# Altium schematic symbol library Power_Distribution_Board_SchLib.SchLib: 23 symbols
Pins are listed as number, name and electrical type; pins without a type are passive.

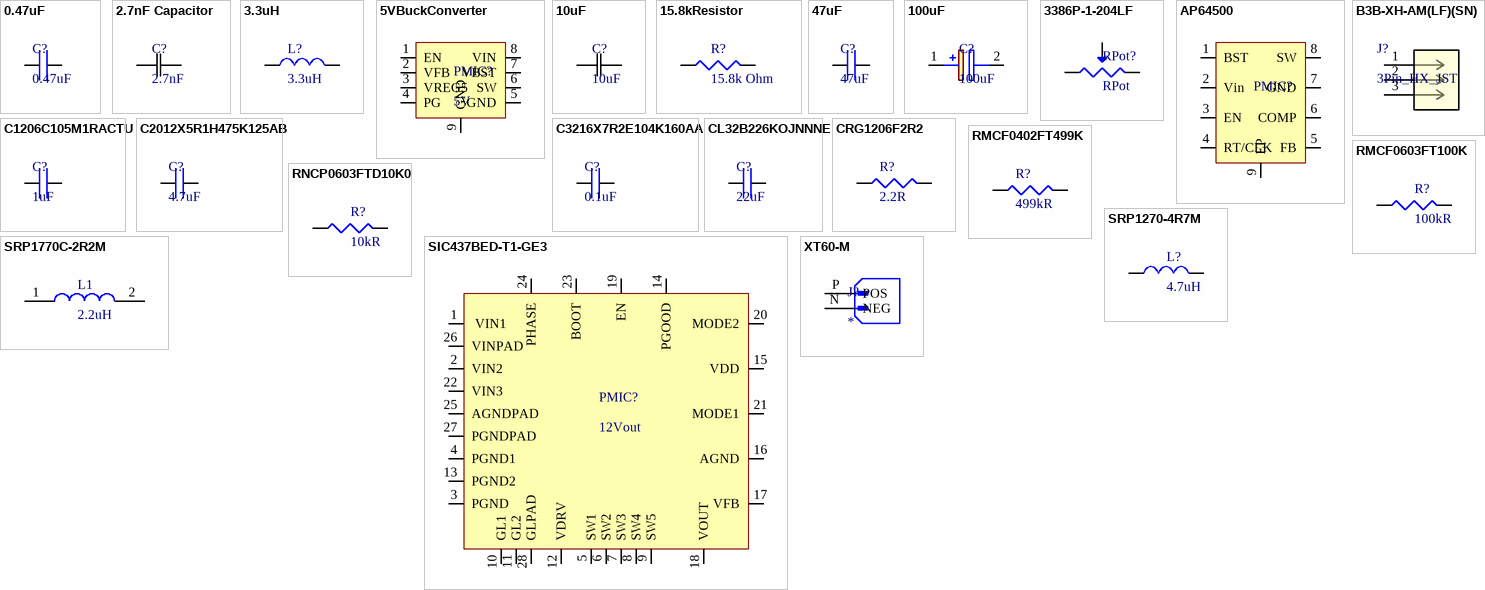
[diagram p0: symbols 0.47uF to XT60-M]

## 0.47uF
designator C?
CAP CER 0.47UF 16V X7R 0603; Manufacturer: Samsung; Manufacturer Part Number: CL10B474KO8NNNC; Material: Ceramic; Capacitance: 470nF; Tolerance: 10%; Supplier 1: Arrow Electronics; Supplier Part Number 1: CL10B474KO8NNNC; RoHS: Yes; Category: Ceramic Capacitors; Stock 1: 25396; Pricing 1: 1=0.08260, 10=0.02850, 25=0.02820, 100=0.01980, 250=0.01880, 500=0.01450, 1000=0.01110, 3000=0.01100, 6000=0.00870, 15000=0.00860 (USD); Mount: Surface Mount; Case/Package: 0603; Case Code (Metric): 1608; Case Code (Imperial): 0603; Contact Plating: Tin; Min Operating Temperature: -55°C; Max Operating Temperature: 125°C; Packaging: Tape and Reel; Voltage Rating: 16V; Package Quantity: 1; Dielectric: X7R; Voltage: 16V; Voltage Rating (DC): 16V; Series: CL; Construction: Flat; Length: 1.6mm; Width: 0.031inch; Height: 0.8mm; Thickness: 0.035inch; Depth: 0.8mm; Radiation Hardening: No; Lead Free: Lead Free; RoHS Compliant: Yes; ComponentLink1URL: https://datasheet.ciiva.com/15195/getdatasheetpartid-354055-15195767.pdf?src-supplier=Verical; ComponentLink1Description: https://datasheet.ciiva.com/15195/getdatasheetpartid-354055-15195767.pdf?src-supplier=Verical; ComponentLink2URL: https://datasheet.ciiva.com/29198/456266-da-01-en-vs-kondensator-0603-29198948.pdf?src-supplier=Conrad; ComponentLink2Description: https://datasheet.ciiva.com/29198/456266-da-01-en-vs-kondensator-0603-29198948.pdf?src-supplier=Conrad; ComponentLink3URL: https://datasheet.ciiva.com/26310/mlcc-catalogdownload2013-eng-26310271.pdf?src-supplier=Distrelec; ComponentLink3Description: https://datasheet.ciiva.com/26310/mlcc-catalogdownload2013-eng-26310271.pdf?src-supplier=Distrelec; ComponentLink4URL: https://datasheet.ciiva.com/16311/clseries-16311528.pdf?src-supplier=Future+Electronics; ComponentLink4Description: https://datasheet.ciiva.com/16311/clseries-16311528.pdf?src-supplier=Future+Electronics
footprint 0_47uF_CAP_CL10_SAM
pins: 1, 2

## 2.7nF Capacitor
designator C?, comment 2.7nF
0402 2.7 nF 50 V ±10 % Tolerance X7R Surface Mount Multilayer Ceramic Capacitor; Manufacturer: Walsin Technologies; Manufacturer Part Number: 0402B272K500CT; Tolerance: 10%; Voltage Rating: 50V; Supplier 1: Arrow Electronics; Supplier Part Number 1: 0402B272K500CT; RoHS: Yes; Category: Ceramic Capacitors; Stock 1: 20000; Pricing 1: 10000=0.00560, 20000=0.00550, 50000=0.00540, 100000=0.00450 (USD); Case/Package: 0402; Case Code (Metric): 1005; Case Code (Imperial): 0402; Min Operating Temperature: -55°C; Max Operating Temperature: 125°C; Packaging: Tape and Reel; Dielectric: X7R; Capacitance: 2.7nF; Voltage Rating (DC): 50V; Length: 1mm; Depth: 0.5mm; REACH SVHC: Unknown; Lead Free: Lead Free; RoHS Compliant: Yes; ComponentLink1URL: http://www.farnell.com/datasheets/2340522.pdf?src-supplier=Farnell; ComponentLink1Description: http://www.farnell.com/datasheets/2340522.pdf?src-supplier=Farnell; ComponentLink2URL: http://www.passivecomponent.com/wp-content/uploads/2018/10/MLCC.pdf?src-supplier=Digi-Key; ComponentLink2Description: http://www.passivecomponent.com/wp-content/uploads/2018/10/MLCC.pdf?src-supplier=Digi-Key; ComponentLink3URL: http://www.farnell.com/datasheets/2340522.pdf?src-supplier=Element14; ComponentLink3Description: http://www.farnell.com/datasheets/2340522.pdf?src-supplier=Element14; ComponentLink4URL: http://www.farnell.com/datasheets/2340522.pdf?src-supplier=Newark; ComponentLink4Description: http://www.farnell.com/datasheets/2340522.pdf?src-supplier=Newark
footprint 2.7nF_CAP_0402_N_WAL
pins: 1, 2

## 3.3uH
designator L?
Inductor High Current Shielded Wirewound 3.3uH 20% 100KHz 15A 9.2mOhm DCR 5050 T/R; Manufacturer: Vishay Dale; Manufacturer Part Number: IHLP5050EZER3R3M01; Core Material: Ferrite,Metal,Composite; Saturation Current: 32A; Self Resonant Frequency: 5MHz; DC Resistance (DCR): 9.2mR; Supplier 1: Arrow Electronics; Supplier Part Number 1: IHLP5050EZER3R3M01; RoHS: Yes; Category: Fixed Inductors; Stock 1: 2750; Pricing 1: 250=1.14650, 500=1.05640 (USD); Mount: Surface Mount; Case/Package: 5050; Number of Pins: 5050; Min Operating Temperature: -55°C; Max Operating Temperature: 125°C; Inductance: 3.3uH; Tolerance: 20%; Package Quantity: 250; Current Rating: 15A; Shielding: Shielded; Packaging: Tape and Reel; Inductance Tolerance: 20%; Max DC Current: 15A; Termination: SMD/SMT; Test Frequency: 100kHz; RMS Current (Irms): 15A; Series: IHLP-5050EZ-01; Rated Current-Max: 15A; Length: 13.2mm; Width: 12.9mm; Height: 5mm; Height - Seated (Max): 0.197inch; Depth: 12.9mm; Radiation Hardening: No; REACH SVHC: Unknown; Military Standard: Not; Lead Free: Lead Free; RoHS Compliant: Yes; ComponentLink1URL: https://datasheet.ciiva.com/5706/425636-5706896.pdf?src-supplier=Farnell; ComponentLink1Description: https://datasheet.ciiva.com/5706/425636-5706896.pdf?src-supplier=Farnell; ComponentLink2URL: https://datasheet.ciiva.com/3082/ih50ez01-3082034.pdf?src-supplier=Avnet; ComponentLink2Description: https://datasheet.ciiva.com/3082/ih50ez01-3082034.pdf?src-supplier=Avnet; ComponentLink3URL: https://datasheet.ciiva.com/17113/70201670-17113196.pdf?src-supplier=Allied+Electronics; ComponentLink3Description: https://datasheet.ciiva.com/17113/70201670-17113196.pdf?src-supplier=Allied+Electronics; ComponentLink4URL: https://datasheet.ciiva.com/8017/425636-8017387.pdf?src-supplier=Element14; ComponentLink4Description: https://datasheet.ciiva.com/8017/425636-8017387.pdf?src-supplier=Element14
footprint 3uH3_IND_IHLP-5050EZ_VIS
pins: 1, 2

## 5VBuckConverter
designator PMIC?, comment 5V
IC REG BCK ADJ 5A SYNC 8SOPWRPAD; Manufacturer: Texas Instruments; Manufacturer Part Number: TPS56528DDAR; Number of Outputs: 1; Output Voltage: 7V; Min Input Voltage: 4.5V; Max Input Voltage: 18V; Switching Frequency: 650kHz; Min Output Voltage: 600mV; Synchronous Rectifier: Yes; Quiescent Current: 250uA; Output Type: Adjustable; Output Configuration: Positive; Supplier 1: Digi-Key; Supplier Part Number 1: 296-35857-1-ND; RoHS: Yes; Category: Voltage Regulators - Switching; Stock 1: 1500; Pricing 1: 1=1.46000, 10=1.30700, 25=1.24080, 100=1.01910, 250=0.95264, 500=0.84186, 1000=0.66880 (USD); Mount: Surface Mount; Case/Package: HSOP; Number of Pins: 8; Min Operating Temperature: -40°C; Max Operating Temperature: 125°C; Packaging: Tape and Reel; Max Output Current: 5A; Output Current: 5A; Package Quantity: 2500; Max Output Voltage: 7V; Operating Supply Voltage: 18V; Series: D-CAP2™, Eco-Mode™; Radiation Hardening: No; Lead Free: Lead Free; RoHS Compliant: Yes; ComponentLink1URL: https://datasheet.ciiva.com/30031/tps56528-30031601.pdf?src-supplier=Avnet; ComponentLink1Description: https://datasheet.ciiva.com/30031/tps56528-30031601.pdf?src-supplier=Avnet; ComponentLink2URL: https://datasheet.ciiva.com/14921/tps56528-14921052.pdf?src-supplier=Digi-Key; ComponentLink2Description: https://datasheet.ciiva.com/14921/tps56528-14921052.pdf?src-supplier=Digi-Key; ComponentLink3URL: https://datasheet.ciiva.com/14921/tps56528-14921051.pdf?src-supplier=Digi-Key; ComponentLink3Description: https://datasheet.ciiva.com/14921/tps56528-14921051.pdf?src-supplier=Digi-Key; ComponentLink4URL: https://datasheet.ciiva.com/14921/tps56528-14921053.pdf?src-supplier=Digi-Key; ComponentLink4Description: https://datasheet.ciiva.com/14921/tps56528-14921053.pdf?src-supplier=Digi-Key
pins: 1 EN, 2 VFB, 3 VREG5, 4 PG, 5 GND, 6 SW, 7 VBST, 8 VIN, 9 GND

## 10uF
designator C?
10 uF Capacitor; Manufacturer: Samsung; Manufacturer Part Number: CL21A106KOQNNNE; Tolerance: 10%; Voltage Rating: 16V; Dielectric: X7R; Supplier 1: Arrow Electronics; Supplier Part Number 1: CL21A106KOQNNNE; RoHS: Yes; Category: Ceramic Capacitors; Stock 1: 1696000; Pricing 1: 2000=0.02030, 4000=0.01630, 10000=0.01580, 14000=0.01420, 50000=0.00990 (USD); Mount: Surface Mount; Case/Package: 0805; Case Code (Metric): 2012; Case Code (Imperial): 0805; Min Operating Temperature: -55°C; Max Operating Temperature: 85°C; Package Quantity: 1; Packaging: Tape and Reel; Capacitance: 10uF; Voltage Rating (DC): 16V; Voltage: 16V; Series: CL; Construction: Flat; Length: 2mm; Width: 0.049inch; Height: 1.25mm; Thickness: 0.055inch; Depth: 1.25mm; Radiation Hardening: No; Lead Free: Lead Free; RoHS Compliant: Yes; ComponentLink1URL: https://datasheet.ciiva.com/25798/cl21a106koqnnne-25798133.pdf?src-supplier=Digi-Key; ComponentLink1Description: https://datasheet.ciiva.com/25798/cl21a106koqnnne-25798133.pdf?src-supplier=Digi-Key
footprint 10uF_CAP_CL21_SAM
pins: 1, 2

## 15.8kResistor
designator R?, comment 15.8k Ohm
Res Thick Film 0201 15.8K Ohm 1% 0.05W ±200ppm/°C Molded SMD T/R; Manufacturer: Panasonic; Manufacturer Part Number: ERJ-1GNF1582C; Resistance: 15.8kR; Power Rating: 50mW; Voltage Rating: 25V; Supplier 1: Mouser; Supplier Part Number 1: 667-ERJ-1GNF1582C; RoHS: Yes; Category: Chip SMD Resistors; Stock 1: 10000; Pricing 1: 1=0.12000, 10=0.06200, 50=0.06200, 100=0.02600, 1000=0.01200, 10000=0.00900 (USD); Mount: Surface Mount; Case/Package: 0201; Case Code (Imperial): 0201; Case Code (Metric): 0603; Contact Plating: Tin,Matte; Min Operating Temperature: -55°C; Max Operating Temperature: 125°C; Package Quantity: 15000; Packaging: Tape and Reel; Tolerance: 1%; Resistor Type: Thick Film; Number of Terminations: 2; Temperature Coefficient: 200ppm/°C; Max Power Dissipation: 50mW; Termination: SMD/SMT; Features: Automotive AEC-Q200; Length: 0.024inch; Width: 0.3mm; Height: 0.01inch; Radiation Hardening: No; ComponentLink1URL: http://www.mouser.com/ds/2/315/AOA0000CE2-37512.pdf?src-supplier=Mouser; ComponentLink1Description: http://www.mouser.com/ds/2/315/AOA0000CE2-37512.pdf?src-supplier=Mouser; ComponentLink2URL: http://www.onlinecomponents.com/datasheet/erj-1gnf1582c.aspx?p=44466414&src-supplier=Onlinecomponents.com; ComponentLink2Description: http://www.onlinecomponents.com/datasheet/erj-1gnf1582c.aspx?p=44466414&src-supplier=Onlinecomponents.com; ComponentLink3URL: https://industrial.panasonic.com/cdbs/www-data/pdf/RDA0000/AOA0000C304.pdf?src-supplier=Digi-Key; ComponentLink3Description: https://industrial.panasonic.com/cdbs/www-data/pdf/RDA0000/AOA0000C304.pdf?src-supplier=Digi-Key; ComponentLink4URL: https://industrial.panasonic.com/cdbs/www-data/pdf/RDM0000/DMM0000COL11.pdf?src-supplier=Digi-Key; ComponentLink4Description: https://industrial.panasonic.com/cdbs/www-data/pdf/RDM0000/DMM0000COL11.pdf?src-supplier=Digi-Key; ComponentLink5URL: http://industrial.panasonic.com/www-cgi/jvcr13pz.cgi?E+PZ+3+AOA0002+ERJ1GNF1582C+7+WW?src-supplier=Digi-Key; ComponentLink5Description: http://industrial.panasonic.com/www-cgi/jvcr13pz.cgi?E+PZ+3+AOA0002+ERJ1GNF1582C+7+WW?src-supplier=Digi-Key
footprint 15.8k_Ohm_RES_ERJ1GNF1582C
pins: 1, 2

## 47uF
designator C?
Cap Ceramic 47uF 16V X6S 10% Pad SMD 1210 105C T/R; Manufacturer: Murata; Manufacturer Part Number: GRM32EC81C476KE15K; Supplier 1: Arrow Electronics; Supplier Part Number 1: GRM32EC81C476KE15K; RoHS: Yes; Category: Ceramic Capacitors; Stock 1: 2851; Pricing 1: 1=0.54210, 10=0.31100, 25=0.30790, 100=0.25990, 250=0.25720, 500=0.19370, 1000=0.16060 (USD); Case/Package: 1210; Voltage Rating (DC): 16V; Dielectric: X6S; Tolerance: 10%; Capacitance: 47uF; Length: 3.2mm; Width: 2.5mm; Thickness: 2.5mm; RoHS Compliant: Yes; ComponentLink1URL: http://search.murata.co.jp/Ceramy/image/img/A01X/G101/ENG/GRM32EC81C476KE15-01.pdf?src-supplier=Digi-Key; ComponentLink1Description: http://search.murata.co.jp/Ceramy/image/img/A01X/G101/ENG/GRM32EC81C476KE15-01.pdf?src-supplier=Digi-Key; ComponentLink2URL: https://search.murata.co.jp/Ceramy/image/img/A01X/G101/ENG/GRM32EC81C476KE15-01.pdf?src-supplier=Digi-Key; ComponentLink2Description: https://search.murata.co.jp/Ceramy/image/img/A01X/G101/ENG/GRM32EC81C476KE15-01.pdf?src-supplier=Digi-Key
footprint 47uF_CeramicCAPC3225X270N
pins: 1, 2

## 100uF
designator C?
20TQC100MYF Cap Tant Solid 100uF 20V D3L CASE 20% (7.3 X 4.3 X 2.8mm) SMD 7343 0.055 Ohm 105 C Embossed T/R; Manufacturer: Panasonic; ESR (Equivalent Series Resistance): 55mR; Ripple Current: 1.7A; Leakage Current: 200uA; Polarity: Polar; Life (Hours): 2000Hour; Dissipation Factor: 10%; Supplier 1: RSComponents; Supplier Part Number 1: 7955749; Manufacturer Part Number: 20TQC100MYF; RoHS: Yes; Category: Polymer Capacitors; Stock 1: 1; Pricing 1: 2=4.40300, 26=3.55400, 126=2.76100, 626=2.04200, 1250=1.91900 (USD); Mount: Surface Mount; Case/Package: 2917; Case Code (Metric): 7343; Case Code (Imperial): 2917; Min Operating Temperature: -55°C; Max Operating Temperature: 105°C; Tolerance: 20%; Packaging: Tape and Reel; Package Quantity: 2500; Capacitance: 100uF; Voltage Rating: 20V; Voltage Rating (DC): 20V; Termination: SMD/SMT; Voltage: 20V; Features: General Purpose; Length: 7.3mm; Width: 0.169inch; Height: 2.8mm; Height - Seated (Max): 0.114inch; Depth: 4.3mm; Radiation Hardening: No; Reach SVHC Compliant: No; Lead Free: Lead Free; RoHS Compliant: Yes; ComponentLink1URL: https://datasheet.ciiva.com/48675/aaa8000ce14-48675007.pdf?src-supplier=Avnet; ComponentLink1Description: https://datasheet.ciiva.com/48675/aaa8000ce14-48675007.pdf?src-supplier=Avnet; ComponentLink2URL: https://datasheet.ciiva.com/25784/1734368-25784989.pdf?src-supplier=Farnell; ComponentLink2Description: https://datasheet.ciiva.com/25784/1734368-25784989.pdf?src-supplier=Farnell; ComponentLink3URL: https://datasheet.ciiva.com/22745/1734368-22745210.pdf?src-supplier=Element14; ComponentLink3Description: https://datasheet.ciiva.com/22745/1734368-22745210.pdf?src-supplier=Element14
footprint 100uF_Cap
pins: 1 +, 2 -

## 3386P-1-204LF
designator RPot?, comment RPot
BOURNS   3386P-1-204LF   TRIMMER, 200K; Resistance: 200kR; Tolerance: 10%; Power Rating: 500mW; Voltage Rating: 300V; Number of Turns: 1; Temperature Coefficient: 100ppm/°C; Supplier 1: Arrow Electronics; Supplier Part Number 1: 3386P-1-204LF; Manufacturer: Bourns; Manufacturer Part Number: 3386P-1-204LF; RoHS: Yes; Category: Variable Resistors and Potentiometers; Stock 1: 15; Pricing 1: 1=1.37390, 10=1.11580, 25=1.10460, 50=1.09360, 100=0.96120, 250=0.95150, 500=0.85600, 1000=0.80290, 5000=0.70770 (USD); Mount: Through Hole,PCB; Weight: 0.03oz; Color: Blue; Contact Plating: Tin,Matte; Min Operating Temperature: -55°C; Max Operating Temperature: 125°C; Packaging: Rail/Tube; Package Quantity: 100; Resistor Type: Cermet; Termination: Pin; Taper: Linear; Max Power Dissipation: 500mW; Series: Trimpot® 3386 - Sealed; Technology: CERMET; Resistance Tolerance: 10%; Length: 9.53mm; Width: 9.53mm; Height: 4.83mm; Depth: 9.53mm; Radiation Hardening: No; REACH SVHC: No SVHC; Military Standard: Not; Lead Free: Lead Free; RoHS Compliant: Yes; ComponentLink1URL: https://datasheet.ciiva.com/11832/0900766b8069ccf9-11832290.pdf?src-supplier=RSComponents; ComponentLink1Description: https://datasheet.ciiva.com/11832/0900766b8069ccf9-11832290.pdf?src-supplier=RSComponents; ComponentLink2URL: https://datasheet.ciiva.com/19482/855421-19482214.pdf?src-supplier=Jameco; ComponentLink2Description: https://datasheet.ciiva.com/19482/855421-19482214.pdf?src-supplier=Jameco; ComponentLink3URL: https://datasheet.ciiva.com/29122/447388-da-01-en-trimmer-tht3386p-1-204lf-200k-0-5w-29122213.pdf?src-supplier=Conrad; ComponentLink3Description: https://datasheet.ciiva.com/29122/447388-da-01-en-trimmer-tht3386p-1-204lf-200k-0-5w-29122213.pdf?src-supplier=Conrad; ComponentLink4URL: https://datasheet.ciiva.com/14108/sa3386-dat-e-14108906.pdf?src-supplier=Distrelec; ComponentLink4Description: https://datasheet.ciiva.com/14108/sa3386-dat-e-14108906.pdf?src-supplier=Distrelec; ComponentLink5URL: https://datasheet.ciiva.com/3266/3386-3266318.pdf?src-supplier=Avnet; ComponentLink5Description: https://datasheet.ciiva.com/3266/3386-3266318.pdf?src-supplier=Avnet; ComponentLink6URL: https://datasheet.ciiva.com/2157/3386-2157945.pdf?src-supplier=Digi-Key; ComponentLink6Description: https://datasheet.ciiva.com/2157/3386-2157945.pdf?src-supplier=Digi-Key; ComponentLink7URL: https://datasheet.ciiva.com/7953/1815119-7953128.pdf?src-supplier=Element14; ComponentLink7Description: https://datasheet.ciiva.com/7953/1815119-7953128.pdf?src-supplier=Element14
footprint POT_3386P
pins: 1, 2, 3

## AP64500
designator PMIC?, comment 5Vout  (value not drawn)
AP64500 Series 40 V 5 A 2.2 MHz Synchronous Buck Converter - SOIC-8EP; Manufacturer: Diodes; Manufacturer Part Number: AP64500SP-13; Supplier 1: Arrow Electronics; Supplier Part Number 1: AP64500SP-13; RoHS: Yes; Category: Voltage Regulators - Switching; Stock 1: 2170; Pricing 1: 1=2.38960, 10=2.13660, 25=2.00130, 100=1.69720, 250=1.57640, 500=1.37310, 1000=1.12610, 3000=1.11430 (USD)
footprint SOIC127P600X163-9N
pins: 1 BST, 2 Vin, 3 EN, 4 RT/CLK, 5 FB, 6 COMP, 7 GND, 8 SW, 9 EP

## B3B-XH-AM(LF)(SN)
designator J?, comment 3Pin_HX_JST
3 Pin HX JST connector; Manufacturer_Part_Number: B3B-XH-AM(LF)(SN); Copyright: Copyright (C) 2022 Ultra Librarian. All rights reserved.; Mfr_Name: JST; Digi-Key_Part_Number_1: 455-2231-ND; RefDes: RefDes; Type: DEV
footprint HX_JST_CONN_B3B-XH-AM(LF)(SN)_JST
pins: 1, 2, 3

## C1206C105M1RACTU
designator C?, comment 1uF
Cap Ceramic 1uF 100V X7R 20% Pad SMD 1206 125C T/R; Manufacturer: KEMET; Manufacturer Part Number: C1206C105M1RACTU; Supplier 1: Arrow Electronics; Supplier Part Number 1: C1206C105M1RACTU; RoHS: Yes; Category: Ceramic Capacitors; Stock 1: 3208; Pricing 1: 1=0.55430, 10=0.53360, 25=0.51300, 100=0.49230, 250=0.47160, 500=0.45100, 1000=0.43020, 3000=0.40960 (USD); Mount: Surface Mount; Case/Package: 1206; Case Code (Metric): 3216; Case Code (Imperial): 1206; Weight: 0.000571oz; Dielectric Material: Ceramic; Min Operating Temperature: -55°C; Max Operating Temperature: 125°C; Capacitance: 1uF; Packaging: Tape and Reel; Voltage Rating: 100V; Tolerance: 20%; Dielectric: X7R; Termination: SMD/SMT; Voltage Rating (DC): 100V; Package Quantity: 2000; Length: 0.126inch; Width: 1.6mm; Height: 1.6mm; Thickness: 0.071inch; RoHS Compliant: Yes; ComponentLink1URL: http://www.farnell.com/datasheets/2746623.pdf?src-supplier=Farnell; ComponentLink1Description: http://www.farnell.com/datasheets/2746623.pdf?src-supplier=Farnell; ComponentLink2URL: http://www.mouser.com/ds/2/212/KEM_C1002_X7R_SMD-357932.pdf?src-supplier=Mouser; ComponentLink2Description: http://www.mouser.com/ds/2/212/KEM_C1002_X7R_SMD-357932.pdf?src-supplier=Mouser; ComponentLink3URL: https://api.kemet.com/component-edge/download/datasheet/C1206C105M1RACTU.pdf?src-supplier=Digi-Key; ComponentLink3Description: https://api.kemet.com/component-edge/download/datasheet/C1206C105M1RACTU.pdf?src-supplier=Digi-Key; ComponentLink4URL: http://www.kemet.com/docfinder?Partnumber=C1206C105M1RACTU&src-supplier=Digi-Key; ComponentLink4Description: http://www.kemet.com/docfinder?Partnumber=C1206C105M1RACTU&src-supplier=Digi-Key; ComponentLink5URL: http://www.farnell.com/datasheets/2746623.pdf?src-supplier=Newark; ComponentLink5Description: http://www.farnell.com/datasheets/2746623.pdf?src-supplier=Newark
footprint 1uF_CAPC340180_180N_KEM
pins: 1, 2

## C2012X5R1H475K125AB
designator C?, comment 4.7uF
Multilayer Ceramic Capacitors MLCC - SMD/SMT 4.7uF 50V 0805 RoHS; Manufacturer: TDK; Manufacturer Part Number: C2012X5R1H475K125AB; Tolerance: 10%; Dielectric: X5R; Supplier 1: Arrow Electronics; Supplier Part Number 1: C2012X5R1H475K125AB; RoHS: Yes; Category: Ceramic Capacitors; Stock 1: 222000; Pricing 1: 2000=0.18320 (USD); Mount: Surface Mount; Case/Package: 0805; Case Code (Metric): 2012; Case Code (Imperial): 0805; Weight: 0.000194oz; Dielectric Material: Ceramic; Min Operating Temperature: -55°C; Max Operating Temperature: 85°C; Capacitance: 4.7uF; Voltage Rating: 50V; Packaging: Tape and Reel; Package Quantity: 1; Voltage Rating (DC): 50V; Termination: SMD/SMT; Resistor Type: Ceramic; Voltage: 50V; Series: C; Construction: Flat; Length: 2mm; Width: 0.049inch; Height: 1.25mm; Thickness: 0.057inch; Depth: 1.25mm; Radiation Hardening: No; REACH SVHC: No SVHC; Lead Free: Lead Free; RoHS Compliant: Yes; ComponentLink1URL: https://datasheet.ciiva.com/24216/c2012x5r1h475k125ab-265006-24216434.pdf?src-supplier=Mouser; ComponentLink1Description: https://datasheet.ciiva.com/24216/c2012x5r1h475k125ab-265006-24216434.pdf?src-supplier=Mouser; ComponentLink2URL: https://datasheet.ciiva.com/22725/1913358-22725564.pdf?src-supplier=Element14; ComponentLink2Description: https://datasheet.ciiva.com/22725/1913358-22725564.pdf?src-supplier=Element14; ComponentLink3URL: https://datasheet.ciiva.com/28673/mlcc-commercial-general-en-28673541.pdf?src-supplier=Element14; ComponentLink3Description: https://datasheet.ciiva.com/28673/mlcc-commercial-general-en-28673541.pdf?src-supplier=Element14; ComponentLink4URL: https://datasheet.ciiva.com/6276/tdkmlcccaprange-6276526.pdf?src-supplier=Digi-Key; ComponentLink4Description: https://datasheet.ciiva.com/6276/tdkmlcccaprange-6276526.pdf?src-supplier=Digi-Key
footprint 4.7uF_C2012_Commercial
pins: 1, 2

## C3216X7R2E104K160AA
designator C?, comment 0.1uF
C Series 1206 0.1 uF 250 V ±10 % Tolerance X7R SMT Multilayer Ceramic Capacitor; Manufacturer: TDK; Manufacturer Part Number: C3216X7R2E104K160AA; Capacitance: 100nF; Tolerance: 10%; Voltage Rating: 250V; Supplier 1: Arrow Electronics; Supplier Part Number 1: C3216X7R2E104K160AA; RoHS: Yes; Category: Ceramic Capacitors; Stock 1: 75; Pricing 1: 1=0.23760, 10=0.19940, 25=0.17910, 50=0.15270 (USD); Mount: Surface Mount; Case/Package: 1206; Number of Pins: 2; Case Code (Metric): 3216; Case Code (Imperial): 1206; Weight: 0.000571oz; Min Operating Temperature: -55°C; Max Operating Temperature: 125°C; Package Quantity: 1; Packaging: Tape and Reel; Voltage Rating (DC): 250V; Dielectric: X7R; Termination: SMD/SMT; Resistor Type: Ceramic; Voltage: 250V; Series: C; Length: 3.2mm; Width: 0.063inch; Height: 1.6mm; Thickness: 0.071inch; Depth: 1.6mm; REACH SVHC: No SVHC; Lead Free: Lead Free; RoHS Compliant: Yes; ComponentLink1URL: https://datasheet.ciiva.com/24216/c3216x7r2e104k160aa-265453-24216524.pdf?src-supplier=Mouser; ComponentLink1Description: https://datasheet.ciiva.com/24216/c3216x7r2e104k160aa-265453-24216524.pdf?src-supplier=Mouser; ComponentLink2URL: https://datasheet.ciiva.com/11788/0900766b80fc5cba-11788223.pdf?src-supplier=RSComponents; ComponentLink2Description: https://datasheet.ciiva.com/11788/0900766b80fc5cba-11788223.pdf?src-supplier=RSComponents; ComponentLink3URL: https://datasheet.ciiva.com/7975/1484596-7975133.pdf?src-supplier=Element14; ComponentLink3Description: https://datasheet.ciiva.com/7975/1484596-7975133.pdf?src-supplier=Element14; ComponentLink4URL: https://datasheet.ciiva.com/22684/1484596-22684136.pdf?src-supplier=Element14; ComponentLink4Description: https://datasheet.ciiva.com/22684/1484596-22684136.pdf?src-supplier=Element14; ComponentLink5URL: https://datasheet.ciiva.com/22694/1484596-22694168.pdf?src-supplier=Element14; ComponentLink5Description: https://datasheet.ciiva.com/22694/1484596-22694168.pdf?src-supplier=Element14
footprint 0.1uF_CAPC340180_88N_KEM
pins: 1, 2

## CL32B226KOJNNNE
designator C?, comment 22uF
Cap Ceramic 22uF 16V X7R 10% Pad SMD 1210 125°C Low ESR T/R; Manufacturer: Samsung; Manufacturer Part Number: CL32B226KOJNNNE; Voltage: 10V; Supplier 1: Arrow Electronics; Supplier Part Number 1: CL32B226KOJNNNE; RoHS: Yes; Category: Ceramic Capacitors; Stock 1: 85127; Pricing 1: 1=0.46920, 10=0.36690, 25=0.36330, 100=0.22440, 250=0.21920, 500=0.17290, 1000=0.13530, 3000=0.11780, 6000=0.11660, 15000=0.11540, 30000=0.10380, 75000=0.09510 (USD); Mount: Surface Mount; Case/Package: 1210; Case Code (Metric): 3225; Case Code (Imperial): 1210; Material: Ceramic; Min Operating Temperature: -55°C; Max Operating Temperature: 125°C; Capacitance: 22uF; Tolerance: 10%; Packaging: Tape and Reel; Package Quantity: 1; Voltage Rating: 16V; Dielectric: X7R; Voltage Rating (DC): 16V; Series: CL; Construction: Flat; Length: 3.2mm; Width: 0.098inch; Height: 2.5mm; Thickness: 0.106inch; Depth: 2.5mm; Radiation Hardening: No; Lead Free: Lead Free; RoHS Compliant: Yes; ComponentLink1URL: https://datasheet.ciiva.com/25723/cl32b226kojnnne-25723543.pdf?src-supplier=Digi-Key; ComponentLink1Description: https://datasheet.ciiva.com/25723/cl32b226kojnnne-25723543.pdf?src-supplier=Digi-Key; ComponentLink2URL: https://datasheet.ciiva.com/16437/cl32b226kojnnne-16437176.pdf?src-supplier=Future+Electronics; ComponentLink2Description: https://datasheet.ciiva.com/16437/cl32b226kojnnne-16437176.pdf?src-supplier=Future+Electronics; ComponentLink3URL: https://datasheet.ciiva.com/29241/450727-da-01-en-vs-kondensator-1210-29241803.pdf?src-supplier=Conrad; ComponentLink3Description: https://datasheet.ciiva.com/29241/450727-da-01-en-vs-kondensator-1210-29241803.pdf?src-supplier=Conrad
footprint 22uF_INDC3225X280N
pins: 1, 2

## CRG1206F2R2
designator R?, comment 2.2R
Thick Film Resistors - SMD CRG1206 1% 2R2; Manufacturer: TE Connectivity; Manufacturer Part Number: CRG1206F2R2; Power Rating: 250mW; Voltage Rating: 200V; Number of Resistors: 1; Temperature Coefficient: 200ppm/°C; Supplier 1: Newark; Supplier Part Number 1: 20R2301; RoHS: Yes; Category: Chip SMD Resistors; Pricing 1: 10000=0.03200, 20000=0.03200, 40000=0.03100, 60000=0.03000, 100000=0.02900 (USD); Mount: Surface Mount; Case/Package: 1206; Case Code (Imperial): 1206; Case Code (Metric): 3216; Min Operating Temperature: -55°C; Max Operating Temperature: 155°C; Resistance: 2.2R; Tolerance: 1%; Resistor Type: Thick Film; Termination: Solder; Packaging: Tape and Reel; Number of Terminations: 2; Series: CRG, Neohm; Max Power Dissipation: 250mW; Length: 3.1mm; Width: 1.55mm; Height: 0.55mm; ELV: Compliant; RoHS Compliant: Yes; ComponentLink1URL: http://www.mouser.com/ds/2/418/NG_CD_1623481_BA-677627.pdf?src-supplier=Mouser; ComponentLink1Description: http://www.mouser.com/ds/2/418/NG_CD_1623481_BA-677627.pdf?src-supplier=Mouser; ComponentLink2URL: https://www.te.com/commerce/DocumentDelivery/DDEController?Action=srchrtrv&amp;DocNm=1773204&amp;DocType=DS&amp;DocLang=English&src-supplier=Digi-Key; ComponentLink2Description: https://www.te.com/commerce/DocumentDelivery/DDEController?Action=srchrtrv&amp;DocNm=1773204&amp;DocType=DS&amp;DocLang=English&src-supplier=Digi-Key
footprint 2.2Ohm_RESC3115X65N
pins: 1, 2

## RMCF0402FT499K
designator R?, comment 499kR
Res Thick Film 0402 499K Ohm 1% 0.063W ±100ppm/°C Molded SMD Paper T/R; Manufacturer: Stackpole Electronics; Manufacturer Part Number: RMCF0402FT499K; Max Power Dissipation: 63mW; Supplier 1: Arrow Electronics; Supplier Part Number 1: RMCF0402FT499K; RoHS: Yes; Category: Chip SMD Resistors; Stock 1: 30000; Pricing 1: 10000=0.00180, 30000=0.00160, 100000=0.00150 (USD); Mount: Surface Mount; Case/Package: 0402; Case Code (Metric): 1005; Case Code (Imperial): 0402; Contact Plating: Tin,Matte; Min Operating Temperature: -55°C; Max Operating Temperature: 155°C; Package Quantity: 10000; Packaging: Tape and Reel; Resistance: 499kR; Tolerance: 1%; Resistor Type: Thick Film; Number of Terminations: 2; Temperature Coefficient: 100ppm/°C; Features: Automotive AEC-Q200; Series: RMCF; Length: 0.039inch; Width: 0.02inch; Height: 0.016inch; Lead Free: Lead Free; RoHS Compliant: Yes; ComponentLink1URL: http://www.seielect.com/Catalog/SEI-RMCF_RMCP.pdf?src-supplier=Digi-Key; ComponentLink1Description: http://www.seielect.com/Catalog/SEI-RMCF_RMCP.pdf?src-supplier=Digi-Key; ComponentLink2URL: https://www.seielect.com/Catalog/SEI-RMCF_RMCP.pdf?src-supplier=Avnet; ComponentLink2Description: https://www.seielect.com/Catalog/SEI-RMCF_RMCP.pdf?src-supplier=Avnet; ComponentLink3URL: https://www.seielect.com/catalog/SEI-Packaging.pdf?src-supplier=Digi-Key; ComponentLink3Description: https://www.seielect.com/catalog/SEI-Packaging.pdf?src-supplier=Digi-Key; ComponentLink4URL: https://www.seielect.com/Catalog/SEI-RMCF_RMCP.pdf?src-supplier=Digi-Key; ComponentLink4Description: https://www.seielect.com/Catalog/SEI-RMCF_RMCP.pdf?src-supplier=Digi-Key
footprint 499kOhm_RES_RMCF0402_STP
pins: 1, 2

## RMCF0603FT100K
designator R?, comment 100kR
RES 100K OHM 1% 1/10W 0603; Manufacturer: Stackpole Electronics; Manufacturer Part Number: RMCF0603FT100K; Power Rating: 100mW; Temperature Coefficient: 100ppm/°C; Working Voltage: 75V; Supplier 1: Arrow Electronics; Supplier Part Number 1: RMCF0603FT100K; RoHS: Yes; Category: Chip SMD Resistors; Stock 1: 6345000; Pricing 1: 5000=0.00290, 10000=0.00180 (USD); Mount: Surface Mount; Case/Package: 0603; Case Code (Metric): 1608; Case Code (Imperial): 0603; Contact Plating: Tin,Matte; Min Operating Temperature: -55°C; Max Operating Temperature: 155°C; Resistance: 100kR; Tolerance: 1%; Packaging: Tape and Reel; Resistor Type: Thick Film; Number of Terminations: 2; Max Power Dissipation: 100mW; Features: Automotive AEC-Q200; Series: RMCF; Construction: Rectangular; Length: 1.55mm; Width: 0.031inch; Height: 0.022inch; Depth: 0.8mm; Radiation Hardening: No; Military Standard: Not; Lead Free: Lead Free; RoHS Compliant: Yes; ComponentLink1URL: https://datasheet.ciiva.com/15193/getdatasheetpartid-362597-15193437.pdf?src-supplier=Verical; ComponentLink1Description: https://datasheet.ciiva.com/15193/getdatasheetpartid-362597-15193437.pdf?src-supplier=Verical
footprint 100kOhm_STA_RMCF0603_STP
pins: 1, 2

## RNCP0603FTD10K0
designator R?, comment 10kR
Res Thin Film 0603 10K Ohm 1% 1/8W ±100ppm/°C Molded SMD SMD Paper T/R; Manufacturer: Stackpole Electronics; Manufacturer Part Number: RNCP0603FTD10K0; Max Power Dissipation: 125mW; Supplier 1: Arrow Electronics; Supplier Part Number 1: RNCP0603FTD10K0; RoHS: Yes; Category: Chip SMD Resistors; Stock 1: 2460; Pricing 1: 1=0.08330, 10=0.05190, 25=0.05140, 100=0.02220, 250=0.02200, 500=0.02180, 1000=0.01310 (USD); Mount: Surface Mount; Case/Package: 0603; Case Code (Metric): 1608; Case Code (Imperial): 0603; Contact Plating: Tin,Matte; Min Operating Temperature: -55°C; Max Operating Temperature: 155°C; Packaging: Tape and Reel; Resistance: 10kR; Tolerance: 1%; Resistor Type: Thin Film; Number of Terminations: 2; Temperature Coefficient: 100ppm/°C; Features: Moisture Resistant,Anti-Sulfur; Series: RNCP; Length: 0.059inch; Width: 0.031inch; Height: 0.02inch; Radiation Hardening: No; Lead Free: Lead Free; RoHS Compliant: Yes; ComponentLink1URL: https://www.seielect.com/Catalog/SEI-rncp.pdf?src-supplier=Avnet; ComponentLink1Description: https://www.seielect.com/Catalog/SEI-rncp.pdf?src-supplier=Avnet; ComponentLink2URL: https://www.seielect.com/Catalog/SEI-rncp.pdf?src-supplier=Digi-Key; ComponentLink2Description: https://www.seielect.com/Catalog/SEI-rncp.pdf?src-supplier=Digi-Key; ComponentLink3URL: https://www.seielect.com/catalog/SEI-Packaging.pdf?src-supplier=Digi-Key; ComponentLink3Description: https://www.seielect.com/catalog/SEI-Packaging.pdf?src-supplier=Digi-Key
footprint 10kOhm_STA_RNCP0603_STP
pins: 1, 2

## SIC437BED-T1-GE3
designator PMIC?, comment 12Vout
Conv DC-DC 4.5V to 28V Synchronous Step Down Single-Out 0.6V 12A 24-Pin MLPQ EP T/R; Manufacturer: Vishay Siliconix; Manufacturer Part Number: SIC437BED-T1-GE3; Output Type: Adjustable; Output Configuration: Positive; Number of Outputs: 1; Min Input Voltage: 3V; Min Output Voltage: 600mV; Max Output Voltage: 20V; Switching Frequency: 1MHz; Synchronous Rectifier: Yes; RoHS: Yes; Stock 1: 33; Pricing 1: 1=2.88000, 10=2.58200, 25=2.44120, 100=2.11560, 250=2.00708, 500=1.80096, 1000=1.68878 (USD); Mount: Surface Mount; Number of Pins: 24; Min Operating Temperature: -40°C; Max Operating Temperature: 125°C; Packaging: Cut Tape; Max Input Voltage: 28V; Output Current: 12A; RoHS Compliant: Yes; ComponentLink1URL: http://www.vishay.com/docs/75921/sic437.pdf?src-supplier=Digi-Key; ComponentLink1Description: http://www.vishay.com/docs/75921/sic437.pdf?src-supplier=Digi-Key; Category: Voltage Regulator; Supplier 1: Arrow Electronics; Supplier Part Number 1: SIC437BED-T1-GE3
footprint SiC437-QFN (PMIC)
pins: 1  VIN1, 2 VIN2, 3 PGND, 4 PGND1, 5 SW1, 6 SW2, 7 SW3, 8 SW4, 9 SW5, 10 GL1, 11 GL2, 12 VDRV, 13 PGND2, 14 PGOOD, 15 VDD, 16 AGND, 17 VFB, 18 VOUT, 19 EN, 20 MODE2, 21 MODE1, 22 VIN3, 23 BOOT, 24 PHASE, 25 AGNDPAD, 26 VINPAD, 27 PGNDPAD, 28 GLPAD

## SRP1270-4R7M
designator L?, comment 4.7uH
Inductor Power Shielded Wirewound 4.7uH 20% 100KHz Iron 15A 0.0112Ohm DCR T/R; Manufacturer: Bourns; Manufacturer Part Number: SRP1270-4R7M; Core Material: Ferrite; Saturation Current: 30A; Self Resonant Frequency: 15MHz; DC Resistance (DCR): 11.2mR; Current: 35A; Supplier 1: Arrow Electronics; Supplier Part Number 1: SRP1270-4R7M; RoHS: Yes; Category: Fixed Inductors; Stock 1: 800; Pricing 1: 400=1.01530, 800=0.90440, 1200=0.87660, 2800=0.82390, 10000=0.79300 (USD); Mount: Surface Mount; Case/Package: 1270; Number of Pins: 2; Min Operating Temperature: -55°C; Max Operating Temperature: 125°C; Packaging: Tape and Reel; Tolerance: 20%; Package Quantity: 400; Current Rating: 15A; Shielding: Shielded; Inductance Tolerance: 20%; Inductance: 4.7uH; Resistor Type: Wirewound; Test Frequency: 100kHz; Max DC Current: 15A; Termination: SMD/SMT; RMS Current (Irms): 15A; DC Current: 15A; Series: SRP1270; Length: 13.7mm; Width: 13.7mm; Height: 7mm; Height - Seated (Max): 0.276inch; Depth: 13.7mm; REACH SVHC: No SVHC; Military Standard: Not; RoHS Compliant: Yes; ComponentLink1URL: https://datasheet.ciiva.com/11803/0900766b80f2b679-11803001.pdf?src-supplier=RSComponents; ComponentLink1Description: https://datasheet.ciiva.com/11803/0900766b80f2b679-11803001.pdf?src-supplier=RSComponents; ComponentLink2URL: https://datasheet.ciiva.com/8515/srp1270-8515814.pdf?src-supplier=Avnet; ComponentLink2Description: https://datasheet.ciiva.com/8515/srp1270-8515814.pdf?src-supplier=Avnet; ComponentLink3URL: https://datasheet.ciiva.com/8517/srp1270-8517062.pdf?src-supplier=Avnet; ComponentLink3Description: https://datasheet.ciiva.com/8517/srp1270-8517062.pdf?src-supplier=Avnet; ComponentLink4URL: https://datasheet.ciiva.com/17045/70277161-17045933.pdf?src-supplier=Allied+Electronics; ComponentLink4Description: https://datasheet.ciiva.com/17045/70277161-17045933.pdf?src-supplier=Allied+Electronics; ComponentLink5URL: https://datasheet.ciiva.com/7849/1834359-7849561.pdf?src-supplier=Element14; ComponentLink5Description: https://datasheet.ciiva.com/7849/1834359-7849561.pdf?src-supplier=Element14; ComponentLink6URL: https://datasheet.ciiva.com/30242/484srp1270-30242620.pdf?src-supplier=Onlinecomponents.com; ComponentLink6Description: https://datasheet.ciiva.com/30242/484srp1270-30242620.pdf?src-supplier=Onlinecomponents.com
footprint 4.7uH_SRP1270
pins: 1, 2

## SRP1770C-2R2M
designator L1, comment 2.2uH
Inductor Power Shielded 2.2uH 20% 40A 21MHz 2-Pin Surface Mount T/R; Manufacturer: Bourns; Manufacturer Part Number: SRP1770C-2R2M; Supplier 1: Newark; Supplier Part Number 1: 66AH0663; RoHS: Yes; Category: Fixed Inductors; Stock 1: 103; Pricing 1: 1=2.90000, 10=2.69000, 25=2.54000, 50=2.38000, 100=1.85000 (USD); RoHS Compliant: Yes
footprint 2.2uH_INDPM178169X700N
pins: 1, 2

## XT60-M
designator J?
Plug; DC supply; XT60; male; PIN: 2; for cable; soldered; 30A; 500V; MP: XT60-M; MF: AMASS; Package: Package; Availability: Not in stock; SnapEDA_Link: https://www.snapeda.com/parts/XT60-M/AMASS/view-part/?ref=snap; Check_prices: https://www.snapeda.com/parts/XT60-M/AMASS/view-part/?ref=eda; Price: None; Value: *
footprint AMASS_XT60-M
pins: N NEG, P POS